# Altium schematic symbol library LED_Grn_Yel.Schlib: 1 symbol
Pins are listed as number, name and electrical type; pins without a type are passive.

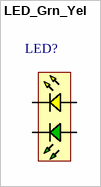
[diagram p0: symbol LED_Grn_Yel]

## LED_Grn_Yel
designator LED?, comment LED_BLU_RED  (value not drawn)
pins: 1 A, 2 K, 3 A, 4 K
1 alternate drawing of the same symbol